# EAGLE library part ESP32 (library TImingBoardPartLibrary)
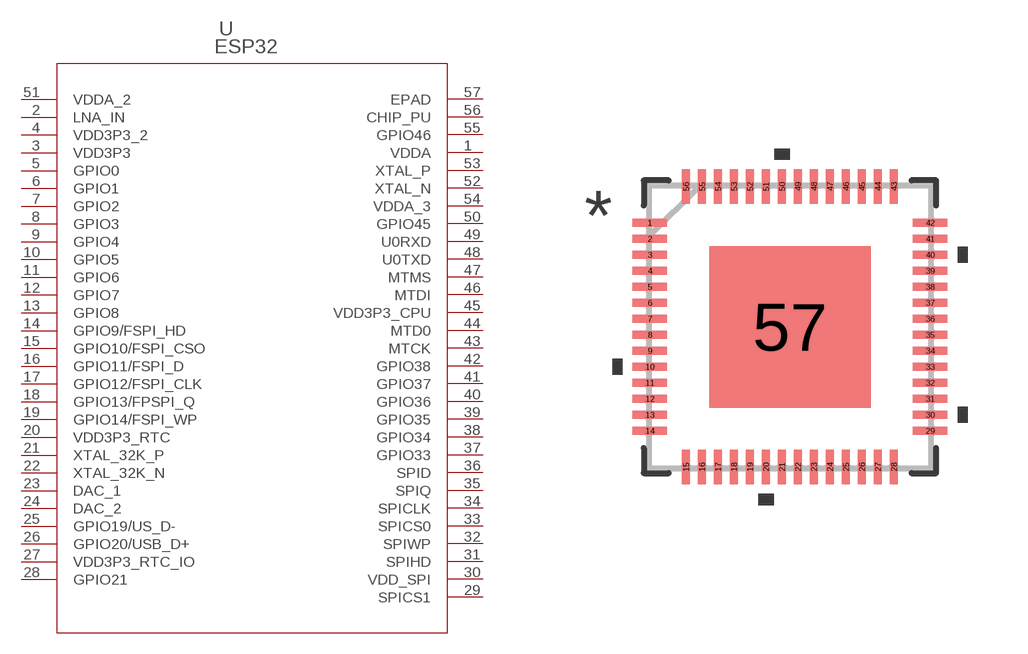
[diagram p0: symbol with the pads of QFN56_ESP32-S2FH4_EXP-M; footprint QFN56_ESP32-S2FH4_EXP-M]

Designator prefix -

## ESP32 (LCSC: C2841141)  [QFN56_ESP32-S2FH4_EXP-M]
1  VDDA  pas
2  LNA_IN  pas
3  VDD3P3  pas
4  VDD3P3_2  pas
5  GPIO0  pas
6  GPIO1  pas
7  GPIO2  pas
8  GPIO3  pas
9  GPIO4  pas
10  GPIO5  pas
11  GPIO6  pas
12  GPIO7  pas
13  GPIO8  pas
14  GPIO9/FSPI_HD  pas
15  GPIO10/FSPI_CSO  pas
16  GPIO11/FSPI_D  pas
17  GPIO12/FSPI_CLK  pas
18  GPIO13/FPSPI_Q  pas
19  GPIO14/FSPI_WP  pas
20  VDD3P3_RTC  pas
21  XTAL_32K_P  pas
22  XTAL_32K_N  pas
23  DAC_1  pas
24  DAC_2  pas
25  GPIO19/US_D-  pas
26  GPIO20/USB_D+  pas
27  VDD3P3_RTC_IO  pas
28  GPIO21  pas
29  SPICS1  pas
30  VDD_SPI  pas
31  SPIHD  pas
32  SPIWP  pas
33  SPICS0  pas
34  SPICLK  pas
35  SPIQ  pas
36  SPID  pas
37  GPIO33  pas
38  GPIO34  pas
39  GPIO35  pas
40  GPIO36  pas
41  GPIO37  pas
42  GPIO38  pas
43  MTCK  pas
44  MTD0  pas
45  VDD3P3_CPU  pas
46  MTDI  pas
47  MTMS  pas
48  U0TXD  pas
49  U0RXD  pas
50  GPIO45  pas
51  VDDA_2  pas
52  XTAL_N  pas
53  XTAL_P  pas
54  VDDA_3  pas
55  GPIO46  pas
56  CHIP_PU  pas
57  EPAD  pas

## Footprint QFN56_ESP32-S2FH4_EXP-M (pad centres in mm)
smd 0.864 x 0.203: 1 -3.505,2.6; 2 -3.505,2.2; 3 -3.505,1.8; 4 -3.505,1.4; 5 -3.505,1; 6 -3.505,0.6; 7 -3.505,0.2; 8 -3.505,-0.2; 9 -3.505,-0.6; 10 -3.505,-1; 11 -3.505,-1.4; 12 -3.505,-1.8; 13 -3.505,-2.2; 14 -3.505,-2.6; 29 3.505,-2.6; 30 3.505,-2.2; 31 3.505,-1.8; 32 3.505,-1.4; 33 3.505,-1; 34 3.505,-0.6; 35 3.505,-0.2; 36 3.505,0.2; 37 3.505,0.6; 38 3.505,1; 39 3.505,1.4; 40 3.505,1.8; 41 3.505,2.2; 42 3.505,2.6
smd 0.203 x 0.864: 15 -2.6,-3.505; 16 -2.2,-3.505; 17 -1.8,-3.505; 18 -1.4,-3.505; 19 -1,-3.505; 20 -0.6,-3.505; 21 -0.2,-3.505; 22 0.2,-3.505; 23 0.6,-3.505; 24 1,-3.505; 25 1.4,-3.505; 26 1.8,-3.505; 27 2.2,-3.505; 28 2.6,-3.505; 43 2.6,3.505; 44 2.2,3.505; 45 1.8,3.505; 46 1.4,3.505; 47 1,3.505; 48 0.6,3.505; 49 0.2,3.505; 50 -0.2,3.505; 51 -0.6,3.505; 52 -1,3.505; 53 -1.4,3.505; 54 -1.8,3.505; 55 -2.2,3.505; 56 -2.6,3.505
smd 4.039 x 4.039: 57 0,0